# Altium schematic symbol library TL061ACD.SchLib: 1 symbol
Pins are listed as number, name and electrical type; pins without a type are passive.

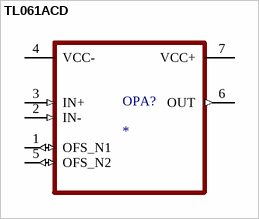
[diagram p0: symbol TL061ACD]

## TL061ACD
designator OPA?
MP: TL061ACD; Package: None; Price: None; Value: *; Availability: Unavailable
footprint SOIC127P599X175-8N
pins: 1 OFS_N1 (io), 2 IN- (in), 3 IN+ (in), 4 VCC- (power), 5 OFS_N2 (io), 6 OUT (out), 7 VCC+ (power)